# Altium footprint library BEE_DAL_IRL.PcbLib: 3 footprints
Each footprint in its own frame and in the unit in brackets; x right, y up, seen from the top. Pads: shape width x height; smd on the part's side, far side on the other; paste and mask are expansions set on the pad; w line width, h text height; cw(c..) or ccw(c..) is an arc to the next point about the centre after c.
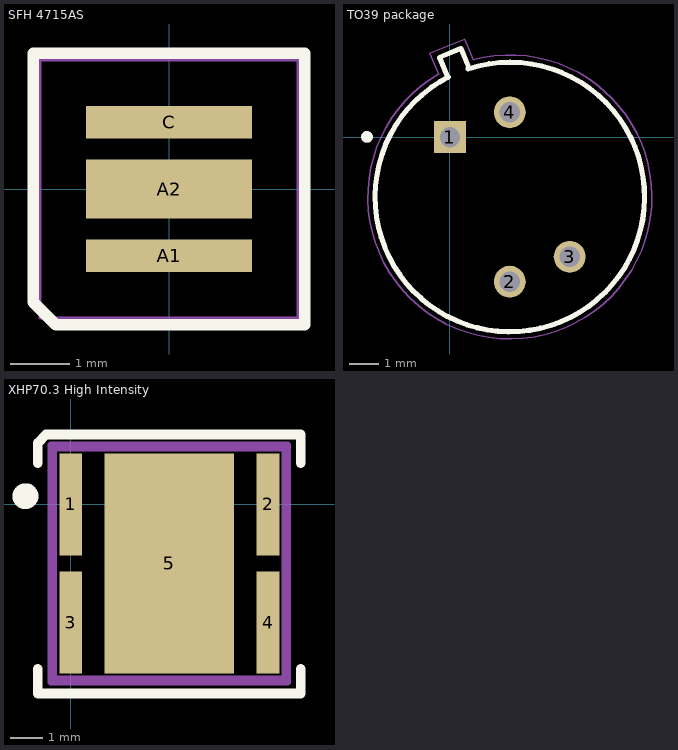
[diagram p0: the footprints below, top view; thin cyan lines are the x and y axes]

## SFH 4715AS [mm]
pads (3):
  rect 2.8x0.55 smd paste-2 mask+0: A1(0,-1.125) C(0,1.125)
  rect 2.8x1 smd paste-2 mask+0: A2(0,0)
Top Overlay:
  lines w0.2: -2.286,-1.905 -1.905,-2.286 -1.778,-2.286 -1.27,-2.286 2.286,-2.286 2.286,2.286 -2.286,2.286 -2.286,-1.905
Top Paste:
  region: 1.3,-0.45 0.15,-0.45 0.15,0.45 1.3,0.45
  region: -0.15,-0.45 -1.3,-0.45 -1.3,0.45 -0.15,0.45
  region: 1.3,-1.3 -1.3,-1.3 -1.3,-0.9 1.3,-0.9
  region: 1.3,0.9 -1.3,0.9 -1.3,1.3 1.3,1.3
Top Solder:
  region: 1.4,-1.4 -1.4,-1.4 -1.4,-0.85 1.4,-0.85
  region: 1.4,-0.5 -1.4,-0.5 -1.4,0.5 1.4,0.5
  region: 1.4,0.85 -1.4,0.85 -1.4,1.4 1.4,1.4
Mechanical 15:
  lines w0.05: -2.175,-2.175 2.175,-2.175 2.175,2.175 -2.175,2.175 -2.175,-2.175
3D body "Diode_OSRAM_Opto_Semiconductors_Inc_SFH_4725S_eec.STEP": height 2.41, standoff 0, extent -1.905,-1.925 1.945,1.925

## TO39 package [mm]
pads (4):
  rect 1.1x1.1 / inner round 1.1 / far side rect 1.1x1.1 hole 0.7: 1(0,0)
  round 1.1 hole 0.7: 2(2.065,-4.985) 3(4.13,-4.13) 4(2.065,0.855)
Top Overlay:
  circle w0.201: c-2.862,0.008 r0.1
  lines w0.178: -2.247,-3.807 cw(c2.066,-2.065) -0.046,2.08 ; -2.247,-3.807 ccw(c2.065,-2.065) 3.807,-6.376 ccw(c2.065,-2.065) 6.376,-0.323 ccw(c2.064,-2.065) 0.627,2.358 ; -0.078,2.063 -0.364,2.753 0.375,3.059 0.661,2.369
Mechanical 13:
  circle w0.201: c-2.862,0.008 r0.1
  lines w0.127: -2.247,-3.807 cw(c2.066,-2.065) -0.046,2.08 ; -2.247,-3.807 ccw(c2.065,-2.065) 3.807,-6.376 ccw(c2.065,-2.065) 6.376,-0.323 ccw(c2.064,-2.065) 0.627,2.358 ; -0.078,2.063 -0.364,2.753 0.375,3.059 0.661,2.369
Mechanical 15:
  lines w0.05: -0.394,2.173 -0.69,2.888 0.511,3.385 0.807,2.671 ; -0.386,2.178 ccw(c2.064,-2.065) -2.446,-3.979 ccw(c2.065,-2.065) 3.979,-6.575 ccw(c2.065,-2.065) 6.575,-0.15 ; 0.797,2.668 cw(c2.065,-2.064) 6.608,-0.229
3D body "step_temp.STEP": height 6.1, standoff -6.4, extent -2.573,-6.703 6.703,3.012

## XHP70.3 High Intensity [mm]
pads (5):
  rect 0.7x3.15 smd paste-1000 mask+0: 1(0,0) 2(6.1,0) 3(0,-3.65) 4(6.1,-3.65)
  rect 4x6.8 smd paste-1000 mask+0: 5(3.05,-1.825)
Top Overlay:
  circle w0.4: c-1.397,0.254 r0.2
  lines w0.3: -1.016,-5.08 -1.016,-5.842 7.112,-5.842 7.112,-5.08 ; -1.016,1.27 -1.016,1.651 -1.016,1.905 -0.762,2.159 7.112,2.159 7.112,1.27
Top Paste:
  rectangle: -0.3,0.715 0.3,1.515
  rectangle: -0.3,-0.405 0.3,0.395
  rectangle: -0.3,-1.525 0.3,-0.725
  rectangle: 5.8,0.715 6.4,1.515
  rectangle: 5.8,-0.405 6.4,0.395
  rectangle: 5.8,-1.525 6.4,-0.725
  rectangle: 5.8,-5.165 6.4,-4.365
  rectangle: 5.8,-4.045 6.4,-3.245
  rectangle: 5.8,-2.925 6.4,-2.125
  rectangle: -0.3,-5.165 0.3,-4.365
  rectangle: -0.3,-4.045 0.3,-3.245
  rectangle: -0.3,-2.925 0.3,-2.125
  rectangle: 1.53,-4.745 4.57,1.095
Mechanical 10:
  lines w0.2: -0.615,-5.49 6.715,-5.49 6.715,1.84 -0.615,1.84 -0.615,-5.49
Mechanical 12:
  lines w0.2: -0.515,-5.39 6.615,-5.39 6.615,1.74 -0.515,1.74 -0.515,-5.39
Mechanical 15:
  lines w0.1: 2.55,-1.825 3.55,-1.825 ; 3.05,-2.325 3.05,-1.325
  lines w0.2: -0.615,-5.49 6.715,-5.49 6.715,1.84 -0.615,1.84 -0.615,-5.49
3D body "Diode_Cree_XHP70D-H0-0000-0D0HN20DV_eec.STEP": height 0.25, standoff 0, extent -0.615,-5.49 6.715,1.84